# Altium schematic symbol library Socket 12.SchLib: 1 symbol
Pins are listed as number, name and electrical type; pins without a type are passive.

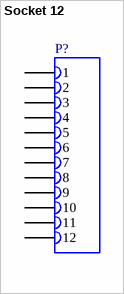
[diagram p0: symbol Socket 12]

## Socket 12
designator P?
Socket, 12-Pin
pins: 1, 2, 3, 4, 5, 6, 7, 8, 9, 10, 11, 12